# Altium footprint library 1.Resistors.PcbLib: 14 footprints
Each footprint in its own frame and in the unit in brackets; x right, y up, seen from the top. Pads: shape width x height; smd on the part's side, far side on the other; paste and mask are expansions set on the pad; w line width, h text height; cw(c..) or ccw(c..) is an arc to the next point about the centre after c.
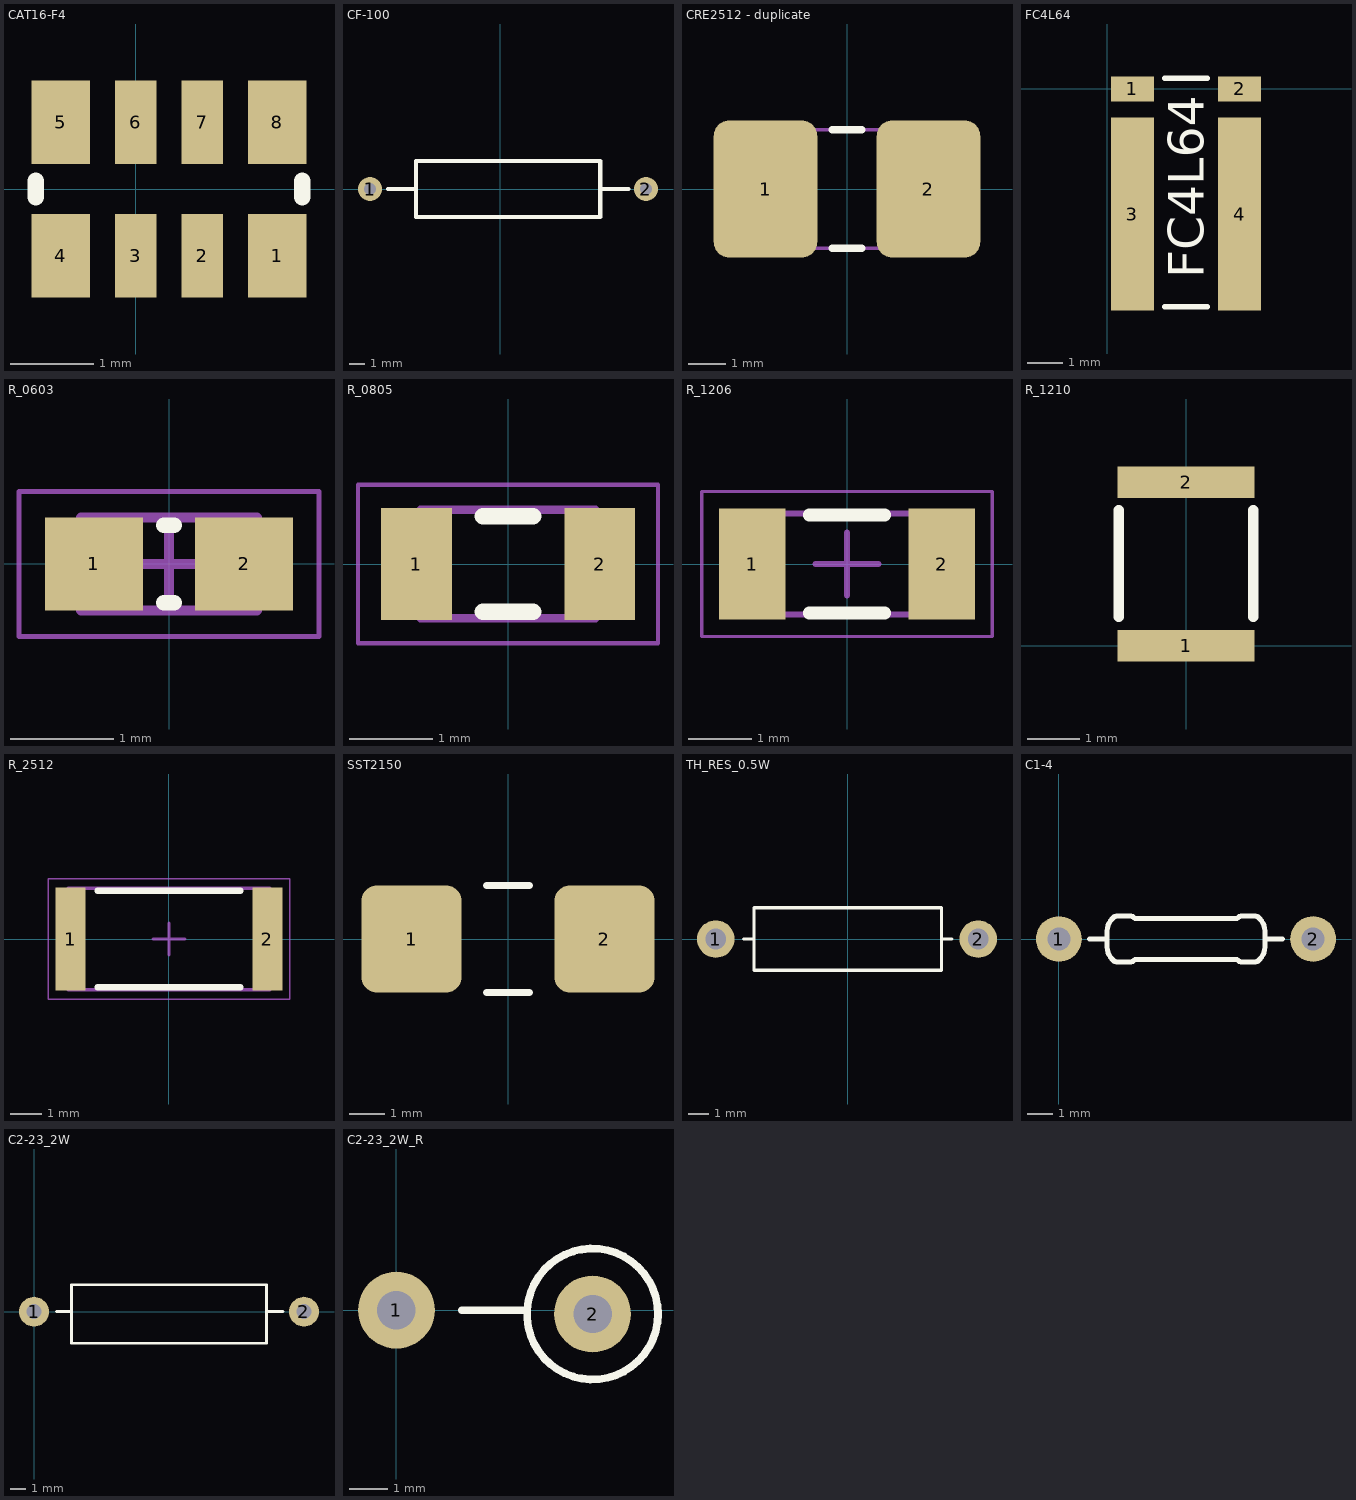
[diagram p0: the footprints below, top view; thin cyan lines are the x and y axes]

## CAT16-F4 [mm]
pads (8):
  rect 0.7x1 smd: 1(1.7,-0.8) 4(-0.9,-0.8) 5(-0.9,0.8) 8(1.7,0.8)
  rect 0.5x1 smd: 2(0.8,-0.8) 3(0,-0.8) 6(0,0.8) 7(0.8,0.8)
Top Overlay:
  lines w0.2: -1.2,-0.1 -1.2,0.1 ; 2,-0.1 2,0.1
3D body "User Library-R-0603-Array-4-1.step": height 0.61, standoff 0.09, extent -1.2,-0.7 2,0.9

## CF-100 [mil]
pads (2):
  round 60 hole 30: 1(-324.8,0) 2(364.17,0)
Top Overlay:
  lines w10: -280,0 -210,0 ; 320,0 250,0 ; 250,0 250,-70 -210,-70 -210,70 250,70 250,0
3D body "User Library-RES1_0L17_5_china.STEP": height 196.85, standoff -98.43, extent -340,-88.58 376.54,88.58

## CRE2512 - duplicate [mm]
pads (2):
  rrect30% 2.8x3.7 smd: 1(-2.2,0) 2(2.2,0)
Top Overlay:
  lines w0.2: -0.4,-1.6 0.4,-1.6 ; -0.4,1.6 0.4,1.6
Mechanical 13:
  lines w0.1: -3.2,-1.6 -3.2,1.6 3.2,1.6 3.2,-1.6 -3.2,-1.6
3D body "2512P.STEP": height 0.83, standoff -0.01, extent -3.25,-1.66 3.25,1.66

## FC4L64 [mm]
pads (4):
  rect 1.2x0.7 smd: 1(0.7,0) 2(3.7,0)
  rect 1.2x5.4 smd: 3(0.7,-3.5) 4(3.7,-3.5)
Top Overlay:
  lines w0.15: 1.6,-6.1 2.8,-6.1 ; 1.6,0.3 2.8,0.3
  text "FC4L64" at 2.7,-5.3 h1
3D body: height 0.5, standoff 0, extent 0.6,-6.1 3.8,0.3

## R_0603 [mm] "Chip Resistor, 2-Leads, Body 1.60x0.80mm, IPC Medium Density"
height 0.45
pads (2):
  rect 0.95x0.9 smd: 1(-0.725,0) 2(0.725,0)
Top Overlay:
  lines w0.15: -0.05,-0.375 0.05,-0.375 ; -0.05,0.375 0.05,0.375
Mechanical 13:
  lines w0.1: -0.85,-0.45 0.85,-0.45 0.85,0.45 -0.85,0.45 -0.85,-0.45
Mechanical 15:
  lines w0.05: -1.45,-0.7 1.45,-0.7 1.45,0.7 -1.45,0.7 -1.45,-0.7
  lines w0.1: -0.45,0 0.45,0 ; 0,-0.45 0,0.45
3D body "User Library-RESC1608X05N.step": height 0.45, standoff 0, extent -0.8,-0.45 0.75,0.4

## R_0805 [mm] "Chip Resistor, 2-Leads, Body 2,10x1,30mm, IPC Medium Density"
height 0.5
pads (2):
  rect 0.85x1.35 smd: 1(-1.1,0) 2(1.1,0)
Top Overlay:
  lines w0.2: -0.3,-0.575 0.3,-0.575 ; -0.3,0.575 0.3,0.575
Mechanical 13:
  lines w0.1: -1.05,-0.65 -1.05,0.65 1.05,0.65 1.05,-0.65 -1.05,-0.65
Mechanical 15:
  lines w0.05: -1.8,-0.95 -1.8,0.95 1.8,0.95 1.8,-0.95 -1.8,-0.95
3D body "User Library-R0805-2.step": height 0.55, standoff 0, extent -1.2,-0.625 1.2,0.625

## R_1206 [mm] "Chip Capacitor, 2-Leads, Body 3,20x1,60mm, IPC Medium Density"
height 1
pads (2):
  rect 1.05x1.75 smd: 1(-1.5,0) 2(1.5,0)
Top Overlay:
  lines w0.2: -0.6,-0.775 0.6,-0.775 ; -0.6,0.775 0.6,0.775
Mechanical 13:
  lines w0.1: -1.6,-0.8 -1.6,0.8 1.6,0.8 1.6,-0.8 -1.6,-0.8
Mechanical 15:
  lines w0.05: -2.3,-1.15 -2.3,1.15 2.3,1.15 2.3,-1.15 -2.3,-1.15
  lines w0.1: -0.5,0 0.5,0 ; 0,-0.5 0,0.5
3D body "User Library-RES_3216-1206.step": height 0.85, standoff 0, extent -1.675,-0.865 1.675,0.865

## R_1210 [mm]
pads (2):
  rect 2.6x0.6 smd: 1(0,0) 2(0,3.1)
Top Overlay:
  lines w0.2: -1.275,0.55 -1.275,2.575 ; 1.275,0.55 1.275,2.575
3D body "User Library-RESC3225X06N.step": height 0.55, standoff 0, extent -1.25,-0.1 1.25,3.1

## R_2512 [mm] "Chip Resistor, 2-Leads, Body 6.32x3.20mm, IPC Medium Density"
height 0.55
pads (2):
  rect 0.95x3.25 smd: 1(-3.1,0) 2(3.1,0)
Top Overlay:
  lines w0.2: -2.25,-1.525 2.25,-1.525 ; -2.25,1.525 2.25,1.525
Mechanical 13:
  lines w0.1: -3.175,-1.6 3.175,-1.6 3.175,1.6 -3.175,1.6 -3.175,-1.6
Mechanical 15:
  lines w0.05: -3.8,-1.9 3.8,-1.9 3.8,1.9 -3.8,1.9 -3.8,-1.9
  lines w0.1: -0.5,0 0.5,0 ; 0,-0.5 0,0.5
3D body "RESC6332X06N.step": height 0.55, standoff 0, extent -3.175,-1.6 3.175,1.6

## SST2150 [mm]
pads (2):
  rrect30% 2.8x3 smd: 1(-2.7,0) 2(2.7,0)
Top Overlay:
  lines w0.2: -0.6,-1.5 0.6,-1.5 ; -0.6,1.5 0.6,1.5

## TH_RES_0.5W [mm]
pads (2):
  round 1.8 hole 1: 1(-6.33,-0.004) 2(6.268,-0.004)
Top Overlay:
  lines w0.15: -5,0 -4.5,0 ; -4.5,0 -4.5,-1.5 4.5,-1.5 4.5,0 ; -4.5,0 -4.5,1 -4.5,1.5 4.5,1.5 4.5,0 ; 4.5,0 5,0 4.5,0
3D body "User Library-Res50-Axial 0_5W-0_18R.step": height 4.38, standoff -5, extent -6.725,-1.875 6.725,1.875

## С1-4 [mm] "С2-33(Н)-0,125; ОМЛТ-0,125; C2-10-0,125 // Масса 0,15 г // Трубка ТВ-40,2 белая высшего сорта ГОСТ 19034-82; UMI"
height 2.7
pads (2):
  round 1.8 hole 0.9: 1(0,0) 2(10,0)
Top Overlay:
  lines w0.2: 1.2,0 1.9,0 ; 2.1,-0.8 cw(c2.583,-0.317) 1.9,-0.317 1.9,0 ; 2.129,-0.829 ccw(c2.3,-0.659) 2.3,-0.9 2.8,-0.9 ccw(c2.8,-0.659) 2.971,-0.829 ; 2.971,0.829 ccw(c2.8,0.659) 2.8,0.9 2.3,0.9 ccw(c2.3,0.659) 2.129,0.829 2.1,0.8 ccw(c2.583,0.317) 1.9,0.317 1.9,0 ; 3,-0.8 7,-0.8 ; 3,0.8 7,0.8 ; 7.029,-0.829 ccw(c7.2,-0.659) 7.2,-0.9 7.7,-0.9 ccw(c7.7,-0.659) 7.871,-0.829 ; 7.029,0.829 cw(c7.2,0.659) 7.2,0.9 7.7,0.9 cw(c7.7,0.659) 7.871,0.829 7.9,0.8 cw(c7.417,0.317) 8.1,0.317 8.1,0 ; 7.9,-0.8 ccw(c7.417,-0.317) 8.1,-0.317 8.1,0 ; 8.8,0 8.1,0
3D body "C2-33H-0,125-01.STEP": height 2.2, standoff -3, extent -0.3,-1.1 10.3,1.1

## С2-23_2W [mm]
pads (2):
  round 2 hole 1: 1(0,0) 2(18,0)
Top Overlay:
  lines w0.2: 1.5,0 2.5,0 ; 15.6,0 16.6,0 ; 2.5,-2.1 15.5,-2.1 15.5,0 15.5,1.8 2.5,1.8 2.5,-2.1
3D body "User Library-PR02.step": height 7.43, standoff -4.95, extent 0.96,-2.1 17,1.8

## С2-23_2W_R [mm]
pads (2):
  round 2 hole 1: 1(0,0) 2(5.1,-0.1)
Top Overlay:
  circle w0.2: c5.1,-0.1 r1.703
  lines w0.2: 1.7,0 3.4,0
3D body "User Library-RESISTOR_2W.step": height 13.74, standoff -2, extent -0.5,-1.8 6.654,1.707